# EAGLE library part 50246-030 (library con-aces-50246-series)
ACES CONNECTORS 50246 SERIES ACES Connecors 50246 <https://www.acesconn.com/tw/series/50246-xxxxx-xxx/1292>
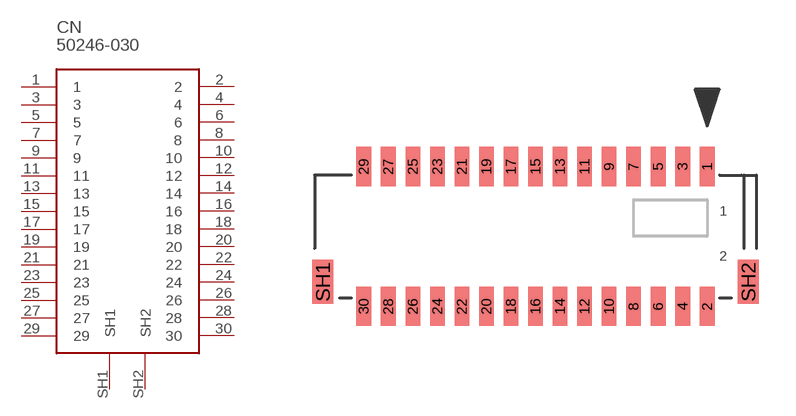
[diagram p7: symbol with the pads of 50246-030; footprint 50246-030]

Designator prefix CN

## 50246-030  [50246-030]
1  1
2  2
3  3
4  4
5  5
6  6
7  7
8  8
9  9
10  10
11  11
12  12
13  13
14  14
15  15
16  16
17  17
18  18
19  19
20  20
21  21
22  22
23  23
24  24
25  25
26  26
27  27
28  28
29  29
30  30
SH1  SH1
SH2  SH2

## Footprint 50246-030 (pad centres in mm)
smd 0.6 x 1.6: 1 7,2.85; 2 7,-2.85; 3 6,2.85; 4 6,-2.85; 5 5,2.85; 6 5,-2.85; 7 4,2.85; 8 4,-2.85; 9 3,2.85; 10 3,-2.85; 11 2,2.85; 12 2,-2.85; 13 1,2.85; 14 1,-2.85; 15 0,2.85; 16 0,-2.85; 17 -1,2.85; 18 -1,-2.85; 19 -2,2.85; 20 -2,-2.85; 21 -3,2.85; 22 -3,-2.85; 23 -4,2.85; 24 -4,-2.85; 25 -5,2.85; 26 -5,-2.85; 27 -6,2.85; 28 -6,-2.85; 29 -7,2.85; 30 -7,-2.85
smd 0.85 x 1.8: SH1 -8.675,-1.85; SH2 8.675,-1.85